# Altium schematic symbol library WE-PLN.SchLib: 40 symbols
Pins are listed as number, name and electrical type; pins without a type are passive.

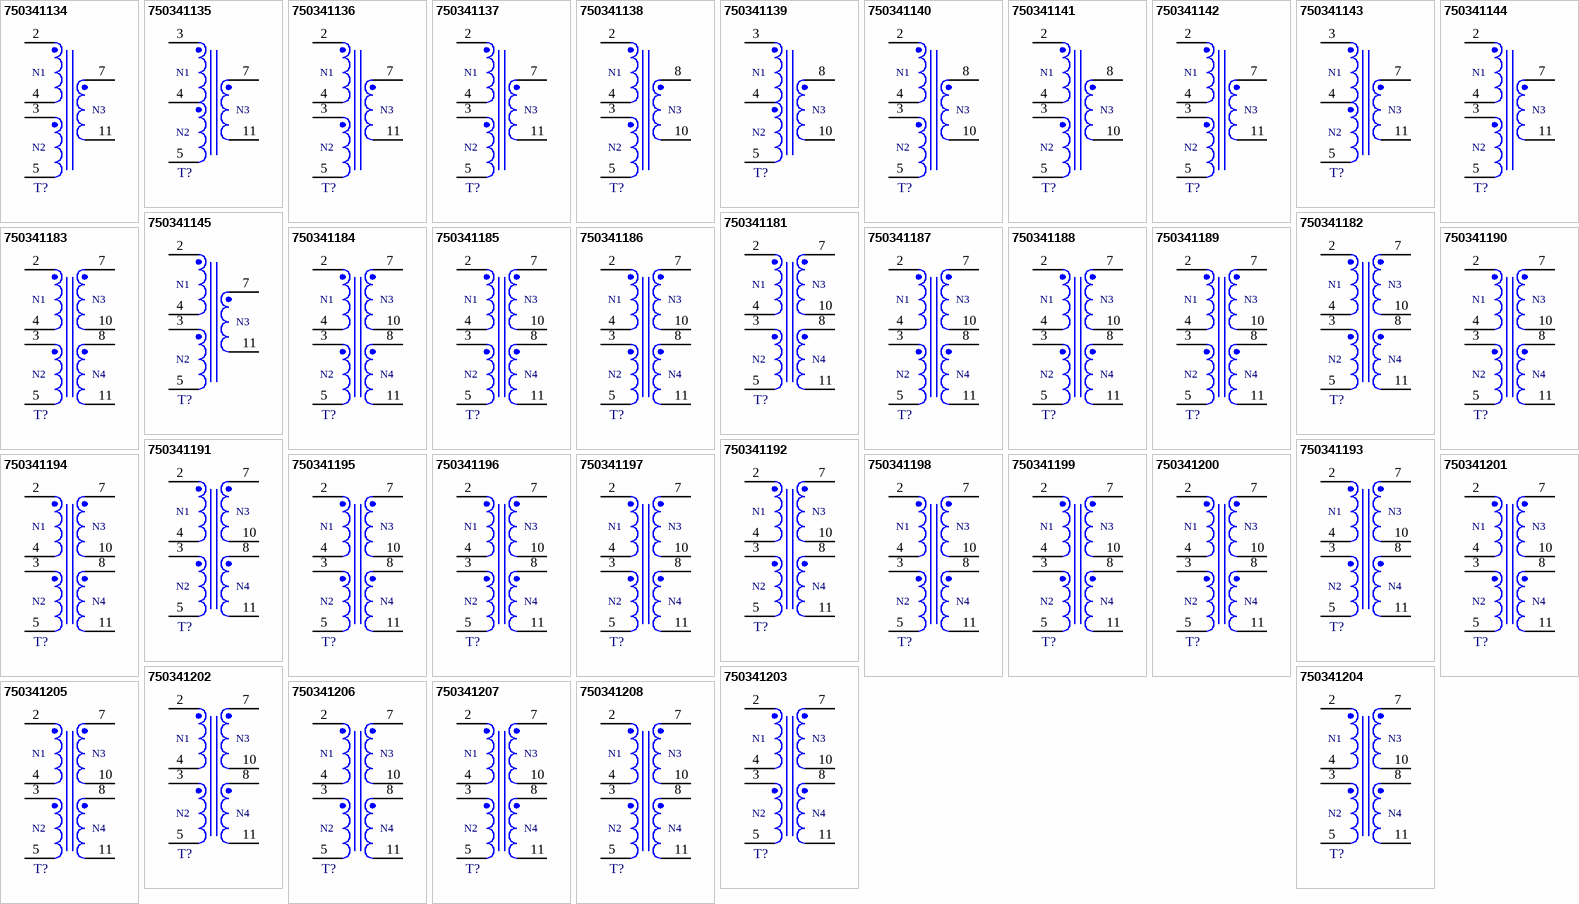
[diagram p0: symbols 750341134 to 750341208]

## 750341134
designator T?  (value not drawn)
WE-PLN Planar Transformer, SMT, ERI25/10/18, 65µH; Manufacturer: Wurth Elektronik; Insulation Test Voltage: 2250V DC; Voltage-µSecond: 160Vµs; Manufacturer Part Number: 750341134; Category: Transformers For DC-DC Converter; Match Code: WE-PLN; ComponentLink1Description: Website Link; ComponentLink1URL: https://www.we-online.com/redexpert/article/750341134?ad; ComponentLink2Description: Datasheet Link; ComponentLink2URL: https://www.we-online.com/redexpert/spec/750341134?ad; Mount: Surface Mount; Operating Temperature Max: 125°C; Operating Temperature Min: -40°C; Packaging: Tape and Reel; Case/Size Code: ERI25/10/18; Length: 26.67mm; Width: 29.41mm; Height: 10.5mm; Inductance: 65µH
footprint ERI25/10/18_250-1446
pins: 2, 3, 4, 5, 7, 11
text: N1; N3; N2

## 750341135
designator T?  (value not drawn)
WE-PLN Planar Transformer, SMT, ERI25/10/18, 145µH; Manufacturer: Wurth Elektronik; Insulation Test Voltage: 2250V DC; Voltage-µSecond: 240Vµs; Manufacturer Part Number: 750341135; Category: Transformers For DC-DC Converter; Match Code: WE-PLN; ComponentLink1Description: Website Link; ComponentLink1URL: https://www.we-online.com/redexpert/article/750341135?ad; ComponentLink2Description: Datasheet Link; ComponentLink2URL: https://www.we-online.com/redexpert/spec/750341135?ad; Mount: Surface Mount; Operating Temperature Max: 125°C; Operating Temperature Min: -40°C; Packaging: Tape and Reel; Case/Size Code: ERI25/10/18; Length: 26.67mm; Width: 29.41mm; Height: 10.5mm; Inductance: 145µH
footprint ERI25/10/18_250-1447
pins: 3, 4, 5, 7, 11
text: N1; N3; N2

## 750341136
designator T?  (value not drawn)
WE-PLN Planar Transformer, SMT, ERI25/10/18, 260µH; Manufacturer: Wurth Elektronik; Insulation Test Voltage: 2250V DC; Voltage-µSecond: 320Vµs; Manufacturer Part Number: 750341136; Category: Transformers For DC-DC Converter; Match Code: WE-PLN; ComponentLink1Description: Website Link; ComponentLink1URL: https://www.we-online.com/redexpert/article/750341136?ad; ComponentLink2Description: Datasheet Link; ComponentLink2URL: https://www.we-online.com/redexpert/spec/750341136?ad; Mount: Surface Mount; Operating Temperature Max: 125°C; Operating Temperature Min: -40°C; Packaging: Tape and Reel; Case/Size Code: ERI25/10/18; Length: 26.67mm; Width: 29.41mm; Height: 10.5mm; Inductance: 260µH
footprint ERI25/10/18_250-1446
pins: 2, 3, 4, 5, 7, 11
text: N1; N3; N2

## 750341137
designator T?  (value not drawn)
WE-PLN Planar Transformer, SMT, ERI25/10/18, 410µH; Manufacturer: Wurth Elektronik; Insulation Test Voltage: 2250V DC; Voltage-µSecond: 400Vµs; Manufacturer Part Number: 750341137; Category: Transformers For DC-DC Converter; Match Code: WE-PLN; ComponentLink1Description: Website Link; ComponentLink1URL: https://www.we-online.com/redexpert/article/750341137?ad; ComponentLink2Description: Datasheet Link; ComponentLink2URL: https://www.we-online.com/redexpert/spec/750341137?ad; Mount: Surface Mount; Operating Temperature Max: 125°C; Operating Temperature Min: -40°C; Packaging: Tape and Reel; Case/Size Code: ERI25/10/18; Length: 26.67mm; Width: 29.3mm; Height: 10.5mm; Inductance: 410µH
footprint ERI25/10/18_250-1446
pins: 2, 3, 4, 5, 7, 11
text: N1; N3; N2

## 750341138
designator T?  (value not drawn)
WE-PLN Planar Transformer, SMT, ERI25/10/18, 65µH; Manufacturer: Wurth Elektronik; Insulation Test Voltage: 2250V DC; Voltage-µSecond: 160Vµs; Manufacturer Part Number: 750341138; Category: Transformers For DC-DC Converter; Match Code: WE-PLN; ComponentLink1Description: Website Link; ComponentLink1URL: https://www.we-online.com/redexpert/article/750341138?ad; ComponentLink2Description: Datasheet Link; ComponentLink2URL: https://www.we-online.com/redexpert/spec/750341138?ad; Mount: Surface Mount; Operating Temperature Max: 125°C; Operating Temperature Min: -40°C; Packaging: Tape and Reel; Case/Size Code: ERI25/10/18; Length: 26.67mm; Width: 29.41mm; Height: 10.5mm; Inductance: 65µH
footprint ERI25/10/18_250-1448
pins: 2, 3, 4, 5, 8, 10
text: N1; N3; N2

## 750341139
designator T?  (value not drawn)
WE-PLN Planar Transformer, SMT, ERI25/10/18, 145µH; Manufacturer: Wurth Elektronik; Insulation Test Voltage: 2250V DC; Voltage-µSecond: 240Vµs; Manufacturer Part Number: 750341139; Category: Transformers For DC-DC Converter; Match Code: WE-PLN; ComponentLink1Description: Website Link; ComponentLink1URL: https://www.we-online.com/redexpert/article/750341139?ad; ComponentLink2Description: Datasheet Link; ComponentLink2URL: https://www.we-online.com/redexpert/spec/750341139?ad; Mount: Surface Mount; Operating Temperature Max: 125°C; Operating Temperature Min: -40°C; Packaging: Tape and Reel; Case/Size Code: ERI25/10/18; Length: 29.41mm; Width: 29.41mm; Height: 10.5mm; Inductance: 145µH
footprint ERI25/10/18_250-1449
pins: 3, 4, 5, 8, 10
text: N1; N3; N2

## 750341140
designator T?  (value not drawn)
WE-PLN Planar Transformer, SMT, ERI25/10/18, 260µH; Manufacturer: Wurth Elektronik; Insulation Test Voltage: 2250V DC; Voltage-µSecond: 320Vµs; Manufacturer Part Number: 750341140; Category: Transformers For DC-DC Converter; Match Code: WE-PLN; ComponentLink1Description: Website Link; ComponentLink1URL: https://www.we-online.com/redexpert/article/750341140?ad; ComponentLink2Description: Datasheet Link; ComponentLink2URL: https://www.we-online.com/redexpert/spec/750341140?ad; Mount: Surface Mount; Operating Temperature Max: 125°C; Operating Temperature Min: -40°C; Packaging: Tape and Reel; Case/Size Code: ERI25/10/18; Length: 26.67mm; Width: 29.41mm; Height: 10.5mm; Inductance: 260µH
footprint ERI25/10/18_250-1448
pins: 2, 3, 4, 5, 8, 10
text: N1; N3; N2

## 750341141
designator T?  (value not drawn)
WE-PLN Planar Transformer, SMT, ERI25/10/18, 410µH; Manufacturer: Wurth Elektronik; Insulation Test Voltage: 2250V DC; Voltage-µSecond: 400Vµs; Manufacturer Part Number: 750341141; Category: Transformers For DC-DC Converter; Match Code: WE-PLN; ComponentLink1Description: Website Link; ComponentLink1URL: https://www.we-online.com/redexpert/article/750341141?ad; ComponentLink2Description: Datasheet Link; ComponentLink2URL: https://www.we-online.com/redexpert/spec/750341141?ad; Mount: Surface Mount; Operating Temperature Max: 125°C; Operating Temperature Min: -40°C; Packaging: Tape and Reel; Case/Size Code: ERI25/10/18; Length: 26.67mm; Width: 29.41mm; Height: 10.5mm; Inductance: 410µH
footprint ERI25/10/18_250-1448
pins: 2, 3, 4, 5, 8, 10
text: N1; N3; N2

## 750341142
designator T?  (value not drawn)
WE-PLN Planar Transformer, SMT, ERI25/10/18, 65µH; Manufacturer: Wurth Elektronik; Insulation Test Voltage: 2250V DC; Voltage-µSecond: 160Vµs; Manufacturer Part Number: 750341142; Category: Transformers For DC-DC Converter; Match Code: WE-PLN; ComponentLink1Description: Website Link; ComponentLink1URL: https://www.we-online.com/redexpert/article/750341142?ad; ComponentLink2Description: Datasheet Link; ComponentLink2URL: https://www.we-online.com/redexpert/spec/750341142?ad; Mount: Surface Mount; Operating Temperature Max: 125°C; Operating Temperature Min: -40°C; Packaging: Tape and Reel; Case/Size Code: ERI25/10/18; Length: 26.67mm; Width: 29.41mm; Height: 10.5mm; Inductance: 65µH
footprint ERI25/10/18_250-1446
pins: 2, 3, 4, 5, 7, 11
text: N1; N3; N2

## 750341143
designator T?  (value not drawn)
WE-PLN Planar Transformer, SMT, ERI25/10/18, 143µH; Manufacturer: Wurth Elektronik; Insulation Test Voltage: 2250V DC; Voltage-µSecond: 240Vµs; Manufacturer Part Number: 750341143; Category: Transformers For DC-DC Converter; Match Code: WE-PLN; ComponentLink1Description: Website Link; ComponentLink1URL: https://www.we-online.com/redexpert/article/750341143?ad; ComponentLink2Description: Datasheet Link; ComponentLink2URL: https://www.we-online.com/redexpert/spec/750341143?ad; Mount: Surface Mount; Operating Temperature Max: 125°C; Operating Temperature Min: -40°C; Packaging: Tape and Reel; Case/Size Code: ERI25/10/18; Length: 26.67mm; Width: 29.41mm; Height: 10.5mm; Inductance: 143µH
footprint ERI25/10/18_250-1447
pins: 3, 4, 5, 7, 11
text: N1; N3; N2

## 750341144
designator T?  (value not drawn)
WE-PLN Planar Transformer, SMT, ERI25/10/18, 260µH; Manufacturer: Wurth Elektronik; Insulation Test Voltage: 2250V DC; Voltage-µSecond: 320Vµs; Manufacturer Part Number: 750341144; Category: Transformers For DC-DC Converter; Match Code: WE-PLN; ComponentLink1Description: Website Link; ComponentLink1URL: https://www.we-online.com/redexpert/article/750341144?ad; ComponentLink2Description: Datasheet Link; ComponentLink2URL: https://www.we-online.com/redexpert/spec/750341144?ad; Mount: Surface Mount; Operating Temperature Max: 125°C; Operating Temperature Min: -40°C; Packaging: Tape and Reel; Case/Size Code: ERI25/10/18; Length: 26.67mm; Width: 29.41mm; Height: 10.5mm; Inductance: 260µH
footprint ERI25/10/18_250-1446
pins: 2, 3, 4, 5, 7, 11
text: N1; N3; N2

## 750341145
designator T?  (value not drawn)
WE-PLN Planar Transformer, SMT, ERI25/10/18, 410µH; Manufacturer: Wurth Elektronik; Insulation Test Voltage: 2250V DC; Voltage-µSecond: 400Vµs; Manufacturer Part Number: 750341145; Category: Transformers For DC-DC Converter; Match Code: WE-PLN; ComponentLink1Description: Website Link; ComponentLink1URL: https://www.we-online.com/redexpert/article/750341145?ad; ComponentLink2Description: Datasheet Link; ComponentLink2URL: https://www.we-online.com/redexpert/spec/750341145?ad; Mount: Surface Mount; Operating Temperature Max: 125°C; Operating Temperature Min: -40°C; Packaging: Tape and Reel; Case/Size Code: ERI25/10/18; Length: 26.67mm; Width: 29.41mm; Height: 10.5mm; Inductance: 410µH
footprint ERI25/10/18_250-1446
pins: 2, 3, 4, 5, 7, 11
text: N1; N3; N2

## 750341181
designator T?  (value not drawn)
WE-PLN Planar Transformer, SMT, ER19/4.8/15, 86µH; Manufacturer: Wurth Elektronik; Insulation Test Voltage: 2250V DC; Voltage-µSecond: 180Vµs; Manufacturer Part Number: 750341181; Category: Transformers For DC-DC Converter; Match Code: WE-PLN; ComponentLink1Description: Website Link; ComponentLink1URL: https://www.we-online.com/redexpert/article/750341181?ad; ComponentLink2Description: Datasheet Link; ComponentLink2URL: https://www.we-online.com/redexpert/spec/750341181?ad; Mount: Surface Mount; Operating Temperature Max: 125°C; Operating Temperature Min: -40°C; Packaging: Tape and Reel; Case/Size Code: ER19/4.8/15; Length: 21.08mm; Width: 23.37mm; Height: 10.5mm; Inductance: 86µH
footprint ER19/4.8/15_250-1440
pins: 2, 3, 4, 5, 7, 8, 10, 11
text: N1; N3; N2; N4

## 750341182
designator T?  (value not drawn)
WE-PLN Planar Transformer, SMT, ER19/4.8/15, 117µH; Manufacturer: Wurth Elektronik; Insulation Test Voltage: 2250V DC; Voltage-µSecond: 210Vµs; Manufacturer Part Number: 750341182; Category: Transformers For DC-DC Converter; Match Code: WE-PLN; ComponentLink1Description: Website Link; ComponentLink1URL: https://www.we-online.com/redexpert/article/750341182?ad; ComponentLink2Description: Datasheet Link; ComponentLink2URL: https://www.we-online.com/redexpert/spec/750341182?ad; Mount: Surface Mount; Operating Temperature Max: 125°C; Operating Temperature Min: -40°C; Packaging: Tape and Reel; Case/Size Code: ER19/4.8/15; Length: 21.08mm; Width: 23.37mm; Height: 10.5mm; Inductance: 117µH
footprint ER19/4.8/15_250-1440
pins: 2, 3, 4, 5, 7, 8, 10, 11
text: N1; N3; N2; N4

## 750341183
designator T?  (value not drawn)
WE-PLN Planar Transformer, SMT, ER19/4.8/15, 153µH; Manufacturer: Wurth Elektronik; Insulation Test Voltage: 2250V DC; Voltage-µSecond: 240Vµs; Manufacturer Part Number: 750341183; Category: Transformers For DC-DC Converter; Match Code: WE-PLN; ComponentLink1Description: Website Link; ComponentLink1URL: https://www.we-online.com/redexpert/article/750341183?ad; ComponentLink2Description: Datasheet Link; ComponentLink2URL: https://www.we-online.com/redexpert/spec/750341183?ad; Mount: Surface Mount; Operating Temperature Max: 125°C; Operating Temperature Min: -40°C; Packaging: Tape and Reel; Case/Size Code: ER19/4.8/15; Length: 21.08mm; Width: 23.37mm; Height: 10.5mm; Inductance: 153µH
footprint ER19/4.8/15_250-1440
pins: 2, 3, 4, 5, 7, 8, 10, 11
text: N1; N3; N2; N4

## 750341184
designator T?  (value not drawn)
WE-PLN Planar Transformer, SMT, ER19/4.8/15, 194µH; Manufacturer: Wurth Elektronik; Insulation Test Voltage: 2250V DC; Voltage-µSecond: 270Vµs; Manufacturer Part Number: 750341184; Category: Transformers For DC-DC Converter; Match Code: WE-PLN; ComponentLink1Description: Website Link; ComponentLink1URL: https://www.we-online.com/redexpert/article/750341184?ad; ComponentLink2Description: Datasheet Link; ComponentLink2URL: https://www.we-online.com/redexpert/spec/750341184?ad; Mount: Surface Mount; Operating Temperature Max: 125°C; Operating Temperature Min: -40°C; Packaging: Tape and Reel; Case/Size Code: ER19/4.8/15; Length: 21.08mm; Width: 23.37mm; Height: 10.5mm; Inductance: 194µH
footprint ER19/4.8/15_250-1440
pins: 2, 3, 4, 5, 7, 8, 10, 11
text: N1; N3; N2; N4

## 750341185
designator T?  (value not drawn)
WE-PLN Planar Transformer, SMT, ER19/4.8/15, 240µH; Manufacturer: Wurth Elektronik; Insulation Test Voltage: 2250V DC; Voltage-µSecond: 300Vµs; Manufacturer Part Number: 750341185; Category: Transformers For DC-DC Converter; Match Code: WE-PLN; ComponentLink1Description: Website Link; ComponentLink1URL: https://www.we-online.com/redexpert/article/750341185?ad; ComponentLink2Description: Datasheet Link; ComponentLink2URL: https://www.we-online.com/redexpert/spec/750341185?ad; Mount: Surface Mount; Operating Temperature Max: 125°C; Operating Temperature Min: -40°C; Packaging: Tape and Reel; Case/Size Code: ER19/4.8/15; Length: 21.08mm; Width: 23.37mm; Height: 10.5mm; Inductance: 240µH
footprint ER19/4.8/15_250-1440
pins: 2, 3, 4, 5, 7, 8, 10, 11
text: N1; N3; N2; N4

## 750341186
designator T?  (value not drawn)
WE-PLN Planar Transformer, SMT, ER19/4.8/15, 290µH; Manufacturer: Wurth Elektronik; Insulation Test Voltage: 2250V DC; Voltage-µSecond: 330Vµs; Manufacturer Part Number: 750341186; Category: Transformers For DC-DC Converter; Match Code: WE-PLN; ComponentLink1Description: Website Link; ComponentLink1URL: https://www.we-online.com/redexpert/article/750341186?ad; ComponentLink2Description: Datasheet Link; ComponentLink2URL: https://www.we-online.com/redexpert/spec/750341186?ad; Mount: Surface Mount; Operating Temperature Max: 125°C; Operating Temperature Min: -40°C; Packaging: Tape and Reel; Case/Size Code: ER19/4.8/15; Length: 21.08mm; Width: 23.37mm; Height: 10.5mm; Inductance: 290µH
footprint ER19/4.8/15_250-1440
pins: 2, 3, 4, 5, 7, 8, 10, 11
text: N1; N3; N2; N4

## 750341187
designator T?  (value not drawn)
WE-PLN Planar Transformer, SMT, ER19/4.8/15, 345µH; Manufacturer: Wurth Elektronik; Insulation Test Voltage: 2250V DC; Voltage-µSecond: 360Vµs; Manufacturer Part Number: 750341187; Category: Transformers For DC-DC Converter; Match Code: WE-PLN; ComponentLink1Description: Website Link; ComponentLink1URL: https://www.we-online.com/redexpert/article/750341187?ad; ComponentLink2Description: Datasheet Link; ComponentLink2URL: https://www.we-online.com/redexpert/spec/750341187?ad; Mount: Surface Mount; Operating Temperature Max: 125°C; Operating Temperature Min: -40°C; Packaging: Tape and Reel; Case/Size Code: ER19/4.8/15; Length: 21.08mm; Width: 23.37mm; Height: 10.5mm; Inductance: 345µH
footprint ER19/4.8/15_250-1440
pins: 2, 3, 4, 5, 7, 8, 10, 11
text: N1; N3; N2; N4

## 750341188
designator T?  (value not drawn)
WE-PLN Planar Transformer, SMT, ER19/4.8/15, 86µH; Manufacturer: Wurth Elektronik; Insulation Test Voltage: 2250V DC; Voltage-µSecond: 180Vµs; Manufacturer Part Number: 750341188; Category: Transformers For DC-DC Converter; Match Code: WE-PLN; ComponentLink1Description: Website Link; ComponentLink1URL: https://www.we-online.com/redexpert/article/750341188?ad; ComponentLink2Description: Datasheet Link; ComponentLink2URL: https://www.we-online.com/redexpert/spec/750341188?ad; Mount: Surface Mount; Operating Temperature Max: 125°C; Operating Temperature Min: -40°C; Packaging: Tape and Reel; Case/Size Code: ER19/4.8/15; Length: 21.08mm; Width: 23.37mm; Height: 10.5mm; Inductance: 86µH
footprint ER19/4.8/15_250-1440
pins: 2, 3, 4, 5, 7, 8, 10, 11
text: N1; N3; N2; N4

## 750341189
designator T?  (value not drawn)
WE-PLN Planar Transformer, SMT, ER19/4.8/15, 117µH; Manufacturer: Wurth Elektronik; Insulation Test Voltage: 2250V DC; Voltage-µSecond: 210Vµs; Manufacturer Part Number: 750341189; Category: Transformers For DC-DC Converter; Match Code: WE-PLN; ComponentLink1Description: Website Link; ComponentLink1URL: https://www.we-online.com/redexpert/article/750341189?ad; ComponentLink2Description: Datasheet Link; ComponentLink2URL: https://www.we-online.com/redexpert/spec/750341189?ad; Mount: Surface Mount; Operating Temperature Max: 125°C; Operating Temperature Min: -40°C; Packaging: Tape and Reel; Case/Size Code: ER19/4.8/15; Length: 21.08mm; Width: 23.37mm; Height: 10.5mm; Inductance: 117µH
footprint ER19/4.8/15_250-1440
pins: 2, 3, 4, 5, 7, 8, 10, 11
text: N1; N3; N2; N4

## 750341190
designator T?  (value not drawn)
WE-PLN Planar Transformer, SMT, ER19/4.8/15, 153µH; Manufacturer: Wurth Elektronik; Insulation Test Voltage: 2250V DC; Voltage-µSecond: 240Vµs; Manufacturer Part Number: 750341190; Category: Transformers For DC-DC Converter; Match Code: WE-PLN; ComponentLink1Description: Website Link; ComponentLink1URL: https://www.we-online.com/redexpert/article/750341190?ad; ComponentLink2Description: Datasheet Link; ComponentLink2URL: https://www.we-online.com/redexpert/spec/750341190?ad; Mount: Surface Mount; Operating Temperature Max: 125°C; Operating Temperature Min: -40°C; Packaging: Tape and Reel; Case/Size Code: ER19/4.8/15; Length: 21.08mm; Width: 23.37mm; Height: 10.5mm; Inductance: 153µH
footprint ER19/4.8/15_250-1440
pins: 2, 3, 4, 5, 7, 8, 10, 11
text: N1; N3; N2; N4

## 750341191
designator T?  (value not drawn)
WE-PLN Planar Transformer, SMT, ER19/4.8/15, 194µH; Manufacturer: Wurth Elektronik; Insulation Test Voltage: 2250V DC; Voltage-µSecond: 270Vµs; Manufacturer Part Number: 750341191; Category: Transformers For DC-DC Converter; Match Code: WE-PLN; ComponentLink1Description: Website Link; ComponentLink1URL: https://www.we-online.com/redexpert/article/750341191?ad; ComponentLink2Description: Datasheet Link; ComponentLink2URL: https://www.we-online.com/redexpert/spec/750341191?ad; Mount: Surface Mount; Operating Temperature Max: 125°C; Operating Temperature Min: -40°C; Packaging: Tape and Reel; Case/Size Code: ER19/4.8/15; Length: 21.08mm; Width: 23.37mm; Height: 10.5mm; Inductance: 194µH
footprint ER19/4.8/15_250-1440
pins: 2, 3, 4, 5, 7, 8, 10, 11
text: N1; N3; N2; N4

## 750341192
designator T?  (value not drawn)
WE-PLN Planar Transformer, SMT, ER19/4.8/15, 240µH; Manufacturer: Wurth Elektronik; Insulation Test Voltage: 2250V DC; Voltage-µSecond: 300Vµs; Manufacturer Part Number: 750341192; Category: Transformers For DC-DC Converter; Match Code: WE-PLN; ComponentLink1Description: Website Link; ComponentLink1URL: https://www.we-online.com/redexpert/article/750341192?ad; ComponentLink2Description: Datasheet Link; ComponentLink2URL: https://www.we-online.com/redexpert/spec/750341192?ad; Mount: Surface Mount; Operating Temperature Max: 125°C; Operating Temperature Min: -40°C; Packaging: Tape and Reel; Case/Size Code: ER19/4.8/15; Length: 21.08mm; Width: 23.37mm; Height: 10.5mm; Inductance: 240µH
footprint ER19/4.8/15_250-1440
pins: 2, 3, 4, 5, 7, 8, 10, 11
text: N1; N3; N2; N4

## 750341193
designator T?  (value not drawn)
WE-PLN Planar Transformer, SMT, ER19/4.8/15, 290µH; Manufacturer: Wurth Elektronik; Insulation Test Voltage: 2250V DC; Voltage-µSecond: 330Vµs; Manufacturer Part Number: 750341193; Category: Transformers For DC-DC Converter; Match Code: WE-PLN; ComponentLink1Description: Website Link; ComponentLink1URL: https://www.we-online.com/redexpert/article/750341193?ad; ComponentLink2Description: Datasheet Link; ComponentLink2URL: https://www.we-online.com/redexpert/spec/750341193?ad; Mount: Surface Mount; Operating Temperature Max: 125°C; Operating Temperature Min: -40°C; Packaging: Tape and Reel; Case/Size Code: ER19/4.8/15; Length: 21.08mm; Width: 23.37mm; Height: 10.5mm; Inductance: 290µH
footprint ER19/4.8/15_250-1440
pins: 2, 3, 4, 5, 7, 8, 10, 11
text: N1; N3; N2; N4

## 750341194
designator T?  (value not drawn)
WE-PLN Planar Transformer, SMT, ER19/4.8/15, 345µH; Manufacturer: Wurth Elektronik; Insulation Test Voltage: 2250V DC; Voltage-µSecond: 360Vµs; Manufacturer Part Number: 750341194; Category: Transformers For DC-DC Converter; Match Code: WE-PLN; ComponentLink1Description: Website Link; ComponentLink1URL: https://www.we-online.com/redexpert/article/750341194?ad; ComponentLink2Description: Datasheet Link; ComponentLink2URL: https://www.we-online.com/redexpert/spec/750341194?ad; Mount: Surface Mount; Operating Temperature Max: 125°C; Operating Temperature Min: -40°C; Packaging: Tape and Reel; Case/Size Code: ER19/4.8/15; Length: 21.08mm; Width: 23.37mm; Height: 10.5mm; Inductance: 345µH
footprint ER19/4.8/15_250-1440
pins: 2, 3, 4, 5, 7, 8, 10, 11
text: N1; N3; N2; N4

## 750341195
designator T?  (value not drawn)
WE-PLN Planar Transformer, SMT, ER19/4.8/15, 86µH; Manufacturer: Wurth Elektronik; Insulation Test Voltage: 2250V DC; Voltage-µSecond: 180Vµs; Manufacturer Part Number: 750341195; Category: Transformers For DC-DC Converter; Match Code: WE-PLN; ComponentLink1Description: Website Link; ComponentLink1URL: https://www.we-online.com/redexpert/article/750341195?ad; ComponentLink2Description: Datasheet Link; ComponentLink2URL: https://www.we-online.com/redexpert/spec/750341195?ad; Mount: Surface Mount; Operating Temperature Max: 125°C; Operating Temperature Min: -40°C; Packaging: Tape and Reel; Case/Size Code: ER19/4.8/15; Length: 21.08mm; Width: 23.37mm; Height: 10.5mm; Inductance: 86µH
footprint ER19/4.8/15_250-1440
pins: 2, 3, 4, 5, 7, 8, 10, 11
text: N1; N3; N2; N4

## 750341196
designator T?  (value not drawn)
WE-PLN Planar Transformer, SMT, ER19/4.8/15, 117µH; Manufacturer: Wurth Elektronik; Insulation Test Voltage: 2250V DC; Voltage-µSecond: 210Vµs; Manufacturer Part Number: 750341196; Category: Transformers For DC-DC Converter; Match Code: WE-PLN; ComponentLink1Description: Website Link; ComponentLink1URL: https://www.we-online.com/redexpert/article/750341196?ad; ComponentLink2Description: Datasheet Link; ComponentLink2URL: https://www.we-online.com/redexpert/spec/750341196?ad; Mount: Surface Mount; Operating Temperature Max: 125°C; Operating Temperature Min: -40°C; Packaging: Tape and Reel; Case/Size Code: ER19/4.8/15; Length: 21.08mm; Width: 23.37mm; Height: 10.5mm; Inductance: 117µH
footprint ER19/4.8/15_250-1440
pins: 2, 3, 4, 5, 7, 8, 10, 11
text: N1; N3; N2; N4

## 750341197
designator T?  (value not drawn)
WE-PLN Planar Transformer, SMT, ER19/4.8/15, 153µH; Manufacturer: Wurth Elektronik; Insulation Test Voltage: 2250V DC; Voltage-µSecond: 240Vµs; Manufacturer Part Number: 750341197; Category: Transformers For DC-DC Converter; Match Code: WE-PLN; ComponentLink1Description: Website Link; ComponentLink1URL: https://www.we-online.com/redexpert/article/750341197?ad; ComponentLink2Description: Datasheet Link; ComponentLink2URL: https://www.we-online.com/redexpert/spec/750341197?ad; Mount: Surface Mount; Operating Temperature Max: 125°C; Operating Temperature Min: -40°C; Packaging: Tape and Reel; Case/Size Code: ER19/4.8/15; Length: 21.08mm; Width: 23.37mm; Height: 10.5mm; Inductance: 153µH
footprint ER19/4.8/15_250-1440
pins: 2, 3, 4, 5, 7, 8, 10, 11
text: N1; N3; N2; N4

## 750341198
designator T?  (value not drawn)
WE-PLN Planar Transformer, SMT, ER19/4.8/15, 194µH; Manufacturer: Wurth Elektronik; Insulation Test Voltage: 2250V DC; Voltage-µSecond: 270Vµs; Manufacturer Part Number: 750341198; Category: Transformers For DC-DC Converter; Match Code: WE-PLN; ComponentLink1Description: Website Link; ComponentLink1URL: https://www.we-online.com/redexpert/article/750341198?ad; ComponentLink2Description: Datasheet Link; ComponentLink2URL: https://www.we-online.com/redexpert/spec/750341198?ad; Mount: Surface Mount; Operating Temperature Max: 125°C; Operating Temperature Min: -40°C; Packaging: Tape and Reel; Case/Size Code: ER19/4.8/15; Length: 21.08mm; Width: 23.37mm; Height: 10.5mm; Inductance: 194µH
footprint ER19/4.8/15_250-1440
pins: 2, 3, 4, 5, 7, 8, 10, 11
text: N1; N3; N2; N4

## 750341199
designator T?  (value not drawn)
WE-PLN Planar Transformer, SMT, ER19/4.8/15, 240µH; Manufacturer: Wurth Elektronik; Insulation Test Voltage: 2250V DC; Voltage-µSecond: 300Vµs; Manufacturer Part Number: 750341199; Category: Transformers For DC-DC Converter; Match Code: WE-PLN; ComponentLink1Description: Website Link; ComponentLink1URL: https://www.we-online.com/redexpert/article/750341199?ad; ComponentLink2Description: Datasheet Link; ComponentLink2URL: https://www.we-online.com/redexpert/spec/750341199?ad; Mount: Surface Mount; Operating Temperature Max: 125°C; Operating Temperature Min: -40°C; Packaging: Tape and Reel; Case/Size Code: ER19/4.8/15; Length: 21.08mm; Width: 23.37mm; Height: 10.5mm; Inductance: 240µH
footprint ER19/4.8/15_250-1440
pins: 2, 3, 4, 5, 7, 8, 10, 11
text: N1; N3; N2; N4

## 750341200
designator T?  (value not drawn)
WE-PLN Planar Transformer, SMT, ER19/4.8/15, 290µH; Manufacturer: Wurth Elektronik; Insulation Test Voltage: 2250V DC; Voltage-µSecond: 330Vµs; Manufacturer Part Number: 750341200; Category: Transformers For DC-DC Converter; Match Code: WE-PLN; ComponentLink1Description: Website Link; ComponentLink1URL: https://www.we-online.com/redexpert/article/750341200?ad; ComponentLink2Description: Datasheet Link; ComponentLink2URL: https://www.we-online.com/redexpert/spec/750341200?ad; Mount: Surface Mount; Operating Temperature Max: 125°C; Operating Temperature Min: -40°C; Packaging: Tape and Reel; Case/Size Code: ER19/4.8/15; Length: 21.08mm; Width: 23.37mm; Height: 10.5mm; Inductance: 290µH
footprint ER19/4.8/15_250-1440
pins: 2, 3, 4, 5, 7, 8, 10, 11
text: N1; N3; N2; N4

## 750341201
designator T?  (value not drawn)
WE-PLN Planar Transformer, SMT, ER19/4.8/15, 345µH; Manufacturer: Wurth Elektronik; Insulation Test Voltage: 2250V DC; Voltage-µSecond: 360Vµs; Manufacturer Part Number: 750341201; Category: Transformers For DC-DC Converter; Match Code: WE-PLN; ComponentLink1Description: Website Link; ComponentLink1URL: https://www.we-online.com/redexpert/article/750341201?ad; ComponentLink2Description: Datasheet Link; ComponentLink2URL: https://www.we-online.com/redexpert/spec/750341201?ad; Mount: Surface Mount; Operating Temperature Max: 125°C; Operating Temperature Min: -40°C; Packaging: Tape and Reel; Case/Size Code: ER19/4.8/15; Length: 21.08mm; Width: 23.37mm; Height: 10.5mm; Inductance: 345µH
footprint ER19/4.8/15_250-1440
pins: 2, 3, 4, 5, 7, 8, 10, 11
text: N1; N3; N2; N4

## 750341202
designator T?  (value not drawn)
WE-PLN Planar Transformer, SMT, ER19/4.8/15, 86µH; Manufacturer: Wurth Elektronik; Insulation Test Voltage: 2250V DC; Voltage-µSecond: 180Vµs; Manufacturer Part Number: 750341202; Category: Transformers For DC-DC Converter; Match Code: WE-PLN; ComponentLink1Description: Website Link; ComponentLink1URL: https://www.we-online.com/redexpert/article/750341202?ad; ComponentLink2Description: Datasheet Link; ComponentLink2URL: https://www.we-online.com/redexpert/spec/750341202?ad; Mount: Surface Mount; Operating Temperature Max: 125°C; Operating Temperature Min: -40°C; Packaging: Tape and Reel; Case/Size Code: ER19/4.8/15; Length: 21.08mm; Width: 23.37mm; Height: 10.5mm; Inductance: 86µH
footprint ER19/4.8/15_250-1440
pins: 2, 3, 4, 5, 7, 8, 10, 11
text: N1; N3; N2; N4

## 750341203
designator T?  (value not drawn)
WE-PLN Planar Transformer, SMT, ER19/4.8/15, 117µH; Manufacturer: Wurth Elektronik; Insulation Test Voltage: 2250V DC; Voltage-µSecond: 210Vµs; Manufacturer Part Number: 750341203; Category: Transformers For DC-DC Converter; Match Code: WE-PLN; ComponentLink1Description: Website Link; ComponentLink1URL: https://www.we-online.com/redexpert/article/750341203?ad; ComponentLink2Description: Datasheet Link; ComponentLink2URL: https://www.we-online.com/redexpert/spec/750341203?ad; Mount: Surface Mount; Operating Temperature Max: 125°C; Operating Temperature Min: -40°C; Packaging: Tape and Reel; Case/Size Code: ER19/4.8/15; Length: 21.08mm; Width: 23.37mm; Height: 10.5mm; Inductance: 117µH
footprint ER19/4.8/15_250-1440
pins: 2, 3, 4, 5, 7, 8, 10, 11
text: N1; N3; N2; N4

## 750341204
designator T?  (value not drawn)
WE-PLN Planar Transformer, SMT, ER19/4.8/15, 153µH; Manufacturer: Wurth Elektronik; Insulation Test Voltage: 2250V DC; Voltage-µSecond: 240Vµs; Manufacturer Part Number: 750341204; Category: Transformers For DC-DC Converter; Match Code: WE-PLN; ComponentLink1Description: Website Link; ComponentLink1URL: https://www.we-online.com/redexpert/article/750341204?ad; ComponentLink2Description: Datasheet Link; ComponentLink2URL: https://www.we-online.com/redexpert/spec/750341204?ad; Mount: Surface Mount; Operating Temperature Max: 125°C; Operating Temperature Min: -40°C; Packaging: Tape and Reel; Case/Size Code: ER19/4.8/15; Length: 21.08mm; Width: 23.37mm; Height: 10.5mm; Inductance: 153µH
footprint ER19/4.8/15_250-1440
pins: 2, 3, 4, 5, 7, 8, 10, 11
text: N1; N3; N2; N4

## 750341205
designator T?  (value not drawn)
WE-PLN Planar Transformer, SMT, ER19/4.8/15, 194µH; Manufacturer: Wurth Elektronik; Insulation Test Voltage: 2250V DC; Voltage-µSecond: 270Vµs; Manufacturer Part Number: 750341205; Category: Transformers For DC-DC Converter; Match Code: WE-PLN; ComponentLink1Description: Website Link; ComponentLink1URL: https://www.we-online.com/redexpert/article/750341205?ad; ComponentLink2Description: Datasheet Link; ComponentLink2URL: https://www.we-online.com/redexpert/spec/750341205?ad; Mount: Surface Mount; Operating Temperature Max: 125°C; Operating Temperature Min: -40°C; Packaging: Tape and Reel; Case/Size Code: ER19/4.8/15; Length: 21.08mm; Width: 23.37mm; Height: 10.5mm; Inductance: 194µH
footprint ER19/4.8/15_250-1440
pins: 2, 3, 4, 5, 7, 8, 10, 11
text: N1; N3; N2; N4

## 750341206
designator T?  (value not drawn)
WE-PLN Planar Transformer, SMT, ER19/4.8/15, 240µH; Manufacturer: Wurth Elektronik; Insulation Test Voltage: 2250V DC; Voltage-µSecond: 300Vµs; Manufacturer Part Number: 750341206; Category: Transformers For DC-DC Converter; Match Code: WE-PLN; ComponentLink1Description: Website Link; ComponentLink1URL: https://www.we-online.com/redexpert/article/750341206?ad; ComponentLink2Description: Datasheet Link; ComponentLink2URL: https://www.we-online.com/redexpert/spec/750341206?ad; Mount: Surface Mount; Operating Temperature Max: 125°C; Operating Temperature Min: -40°C; Packaging: Tape and Reel; Case/Size Code: ER19/4.8/15; Length: 21.08mm; Width: 23.37mm; Height: 10.5mm; Inductance: 240µH
footprint ER19/4.8/15_250-1440
pins: 2, 3, 4, 5, 7, 8, 10, 11
text: N1; N3; N2; N4

## 750341207
designator T?  (value not drawn)
WE-PLN Planar Transformer, SMT, ER19/4.8/15, 290µH; Manufacturer: Wurth Elektronik; Insulation Test Voltage: 2250V DC; Voltage-µSecond: 330Vµs; Manufacturer Part Number: 750341207; Category: Transformers For DC-DC Converter; Match Code: WE-PLN; ComponentLink1Description: Website Link; ComponentLink1URL: https://www.we-online.com/redexpert/article/750341207?ad; ComponentLink2Description: Datasheet Link; ComponentLink2URL: https://www.we-online.com/redexpert/spec/750341207?ad; Mount: Surface Mount; Operating Temperature Max: 125°C; Operating Temperature Min: -40°C; Packaging: Tape and Reel; Case/Size Code: ER19/4.8/15; Length: 21.08mm; Width: 23.37mm; Height: 10.5mm; Inductance: 290µH
footprint ER19/4.8/15_250-1440
pins: 2, 3, 4, 5, 7, 8, 10, 11
text: N1; N3; N2; N4

## 750341208
designator T?  (value not drawn)
WE-PLN Planar Transformer, SMT, ER19/4.8/15, 345µH; Manufacturer: Wurth Elektronik; Insulation Test Voltage: 2250V DC; Voltage-µSecond: 360Vµs; Manufacturer Part Number: 750341208; Category: Transformers For DC-DC Converter; Match Code: WE-PLN; ComponentLink1Description: Website Link; ComponentLink1URL: https://www.we-online.com/redexpert/article/750341208?ad; ComponentLink2Description: Datasheet Link; ComponentLink2URL: https://www.we-online.com/redexpert/spec/750341208?ad; Mount: Surface Mount; Operating Temperature Max: 125°C; Operating Temperature Min: -40°C; Packaging: Tape and Reel; Case/Size Code: ER19/4.8/15; Length: 21.08mm; Width: 23.37mm; Height: 10.5mm; Inductance: 345µH
footprint ER19/4.8/15_250-1440
pins: 2, 3, 4, 5, 7, 8, 10, 11
text: N1; N3; N2; N4